# EAGLE library part QFP2DIL (library mylib_20130829)
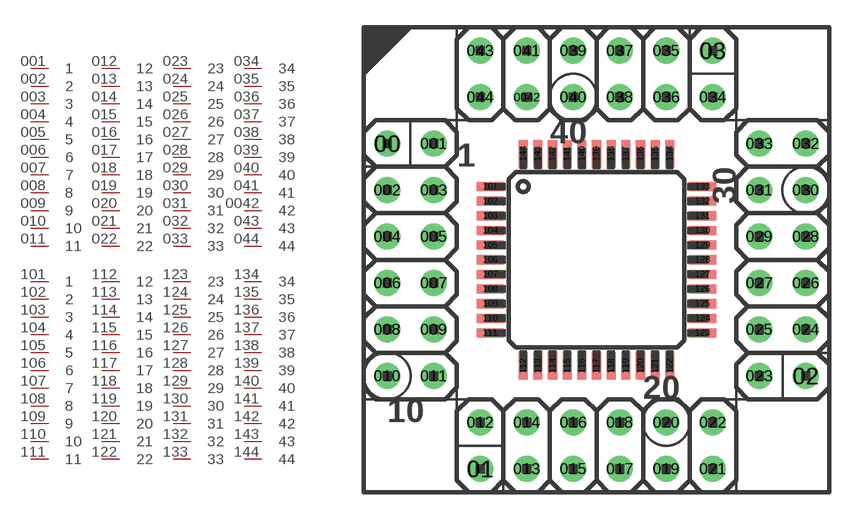
[diagram p13: symbol with the pads of REF_IC_QFP2DIP2; footprint REF_IC_QFP2DIP2]

Designator prefix BD

## QFP2DIL44  [REF_IC_QFP2DIP2]
001  1
002  2
003  3
004  4
005  5
006  6
007  7
008  8
009  9
010  10
011  11
012  12
013  13
014  14
015  15
016  16
017  17
018  18
019  19
020  20
021  21
022  22
023  23
024  24
025  25
026  26
027  27
028  28
029  29
030  30
031  31
032  32
033  33
034  34
035  35
036  36
037  37
038  38
039  39
040  40
041  41
0042  42
043  43
044  44
101  1
102  2
103  3
104  4
105  5
106  6
107  7
108  8
109  9
110  10
111  11
112  12
113  13
114  14
115  15
116  16
117  17
118  18
119  19
120  20
121  21
122  22
123  23
124  24
125  25
126  26
127  27
128  28
129  29
130  30
131  31
132  32
133  33
134  34
135  35
136  36
137  37
138  38
139  39
140  40
141  41
142  42
143  43
144  44

## Footprint REF_IC_QFP2DIP2 (pad centres in mm)
drill 0.889: 00 -11.43,6.35; 001 -8.89,6.35; 01 -6.35,-11.43; 002 -11.43,3.81; 02 11.43,-6.35; 003 -8.89,3.81; 03 6.35,11.43; 004 -11.43,1.27; 005 -8.89,1.27; 006 -11.43,-1.27; 007 -8.89,-1.27; 008 -11.43,-3.81; 009 -8.89,-3.81; 010 -11.43,-6.35; 011 -8.89,-6.35; 012 -6.35,-8.89; 013 -3.81,-11.43; 014 -3.81,-8.89; 015 -1.27,-11.43; 016 -1.27,-8.89; 017 1.27,-11.43; 018 1.27,-8.89; 019 3.81,-11.43; 020 3.81,-8.89; 021 6.35,-11.43; 022 6.35,-8.89; 023 8.89,-6.35; 024 11.43,-3.81; 025 8.89,-3.81; 026 11.43,-1.27; 027 8.89,-1.27; 028 11.43,1.27; 029 8.89,1.27; 030 11.43,3.81; 031 8.89,3.81; 032 11.43,6.35; 033 8.89,6.35; 034 6.35,8.89; 035 3.81,11.43; 036 3.81,8.89; 037 1.27,11.43; 038 1.27,8.89; 039 -1.27,11.43; 040 -1.27,8.89; 041 -3.81,11.43; 0042 -3.81,8.89; 043 -6.35,11.43; 044 -6.35,8.89
smd 1.5 x 0.5: 101 -5.8,4; 102 -5.8,3.2; 103 -5.8,2.4; 104 -5.8,1.6; 105 -5.8,0.8; 106 -5.8,0; 107 -5.8,-0.8; 108 -5.8,-1.6; 109 -5.8,-2.4; 110 -5.8,-3.2; 111 -5.8,-4; 123 5.8,-4; 124 5.8,-3.2; 125 5.8,-2.4; 126 5.8,-1.6; 127 5.8,-0.8; 128 5.8,0; 129 5.8,0.8; 130 5.8,1.6; 131 5.8,2.4; 132 5.8,3.2; 133 5.8,4
smd 0.5 x 1.5: 112 -4,-5.8; 113 -3.2,-5.8; 114 -2.4,-5.8; 115 -1.6,-5.8; 116 -0.8,-5.8; 117 0,-5.8; 118 0.8,-5.8; 119 1.6,-5.8; 120 2.4,-5.8; 121 3.2,-5.8; 122 4,-5.8; 134 4,5.8; 135 3.2,5.8; 136 2.4,5.8; 137 1.6,5.8; 138 0.8,5.8; 139 0,5.8; 140 -0.8,5.8; 141 -1.6,5.8; 142 -2.4,5.8; 143 -3.2,5.8; 144 -4,5.8